# Altium footprint library BTN-PTS525SM.PcbLib: 1 footprints
Each footprint in its own frame and in the unit in brackets; x right, y up, seen from the top. Pads: shape width x height; smd on the part's side, far side on the other; paste and mask are expansions set on the pad; w line width, h text height; cw(c..) or ccw(c..) is an arc to the next point about the centre after c.
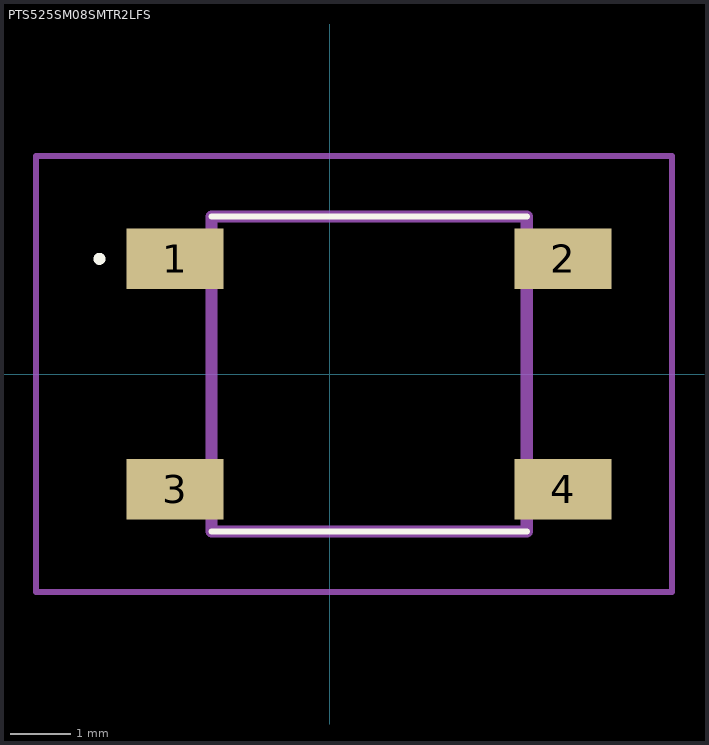
[diagram p0: the footprint, top view; thin cyan lines are the x and y axes]

## PTS525SM08SMTR2LFS [mm]
pads (4):
  rect 1.6x1 smd: 1(-2.55,1.9) 2(3.85,1.9) 3(-2.55,-1.9) 4(3.85,-1.9)
Top Overlay:
  lines w0.1: -1.95,-2.6 3.25,-2.6 ; -1.95,2.6 3.25,2.6 ; -3.85,1.9 cw(c-3.8,1.9) -3.75,1.9 cw(c-3.8,1.9) -3.85,1.9
Mechanical 13:
  lines w0.2: -1.95,-2.6 -1.95,2.6 3.25,2.6 3.25,-2.6 -1.95,-2.6
Mechanical 15:
  lines w0.1: -4.85,-3.6 -4.85,3.6 5.65,3.6 5.65,-3.6 -4.85,-3.6